# EAGLE library part TVS_DIODE_ARRAY_TPD6E004 (library FlashPCB_CircuitProtection)
TPD6E004 - Low-Capacitance, 6-Channel ±15-kV ESD Protection Array for High-Speed Data Interfaces Technical Specifications: ESD Protection: ±15-kV Human-Body Model (HBM) Capacitance: 1.6 pF Component Search: TPD6E004RSER <https://www.flashpcb.com/components> Datasheet: TPD6E004 Low-Capacitance, 6-Channel ±15-kV ESD Protection Array for High-Speed Data Interfaces <https://www.ti.com/lit/ds/symlink/tpd6e004.pdf?HQS=dis-dk-null-digikeymode-dsf-pf-null-wwe&ts=1686679293774&ref_url=https%253A%252F%252Fwww.ti.com%252Fgeneral%252Fdocs%252Fsuppproductinfo.tsp%253FdistId%253D10%2526gotoUrl%253Dhttps%253A%252F%252Fwww.ti.com%252Flit%252Fgpn%252Ftpd6e004>
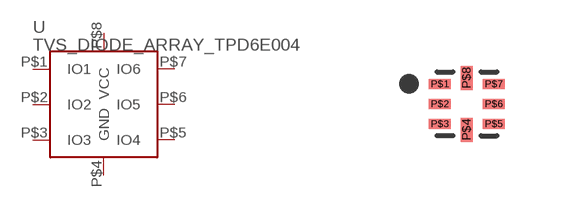
[diagram p1: symbol with the pads of 8-UQFN(1.5X1.5); footprint 8-UQFN(1.5X1.5)]

Designator prefix U

## TVS_DIODE_ARRAY_TPD6E004  [8-UQFN(1.5X1.5)]
P$1  IO1
P$2  IO2
P$3  IO3
P$4  GND
P$5  IO4
P$6  IO5
P$7  IO6
P$8  VCC

## Footprint 8-UQFN(1.5X1.5) (pad centres in mm)
smd 0.55 x 0.25: P$1 -0.675,0.5; P$2 -0.675,0; P$3 -0.675,-0.5; P$5 0.675,-0.5; P$6 0.675,0; P$7 0.675,0.5
smd 0.3 x 0.6: P$4 0,-0.65; P$8 0,0.65